# EAGLE library part HAB-EXP (library HAB)
HAB Expansion Connector Dual 2x8 expansion connectors for HAB project
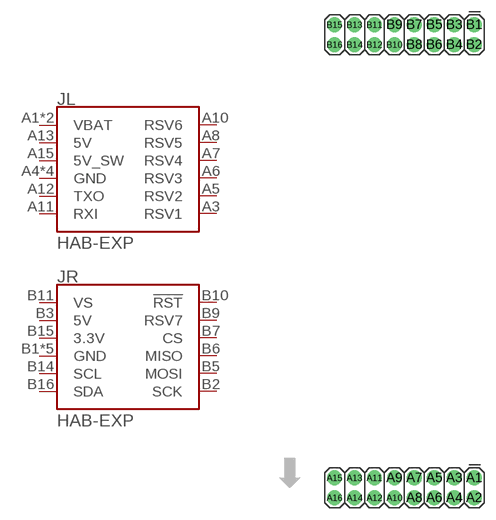
[diagram p22: symbol with the pads of HAB-EXP; footprint HAB-EXP]

Designator prefix J; gates L=HAB-EXP-A R=HAB-EXP-B

## HAB-EXP  [HAB-EXP]
A1  L:VBAT  pwr
A2  L:VBAT  pwr
A3  L:RSV1
A4  L:GND  pwr
A5  L:RSV2
A6  L:RSV3
A7  L:RSV4
A8  L:RSV5
A9  L:GND  pwr
A10  L:RSV6
A11  L:RXI  in
A12  L:TXO  out
A13  L:5V  pwr
A14  L:GND  pwr
A15  L:5V_SW  pwr
A16  L:GND  pwr
B1  R:GND  pwr
B2  R:SCK
B3  R:5V  pwr
B4  R:GND  pwr
B5  R:MOSI
B6  R:MISO
B7  R:CS
B8  R:GND  pwr
B9  R:RSV7
B10  R:!RST!
B11  R:VS  pwr
B12  R:GND  pwr
B13  R:GND  pwr
B14  R:SCL
B15  R:3.3V  pwr
B16  R:SDA

## Footprint HAB-EXP (pad centres in mm)
HAB Expansion Connector - 2x8 x2 Connectors for HAB expansion with correct pitch and spacing
drill 1.016 pad 1.88: A1 17.78,2.54; A2 17.78,0; A3 15.24,2.54; A4 15.24,0; A5 12.7,2.54; A6 12.7,0; A7 10.16,2.54; A8 10.16,0; A9 7.62,2.54; A10 7.62,0; A11 5.08,2.54; A12 5.08,0; A13 2.54,2.54; A14 2.54,0; A15 0,2.54; A16 0,0; B1 17.78,60.325; B2 17.78,57.785; B3 15.24,60.325; B4 15.24,57.785; B5 12.7,60.325; B6 12.7,57.785; B7 10.16,60.325; B8 10.16,57.785; B9 7.62,60.325; B10 7.62,57.785; B11 5.08,60.325; B12 5.08,57.785; B13 2.54,60.325; B14 2.54,57.785; B15 0,60.325; B16 0,57.785